# Altium schematic symbol library SCH - MCU - NUVOTON - NUVOTON NUC123LC2AN1.SchLib: 1 symbol
Pins are listed as number, name and electrical type; pins without a type are passive.

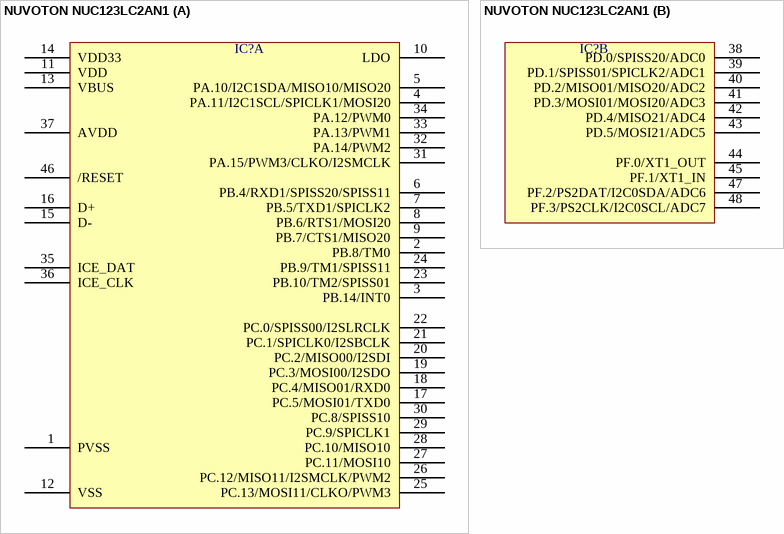
[diagram p0: symbol NUVOTON NUC123LC2AN1]

## NUVOTON NUC123LC2AN1
designator IC?  (value not drawn)
part A pins: 1 PVSS, 2 PB.8/TM0, 3 PB.14/INT0, 4 PA.11/I2C1SCL/SPICLK1/MOSI20, 5 PA.10/I2C1SDA/MISO10/MISO20, 6 PB.4/RXD1/SPISS20/SPISS11, 7 PB.5/TXD1/SPICLK2, 8 PB.6/RTS1/MOSI20, 9 PB.7/CTS1/MISO20, 10 LDO, 11 VDD, 12 VSS, 13 VBUS, 14 VDD33, 15 D-, 16 D+, 17 PC.5/MOSI01/TXD0, 18 PC.4/MISO01/RXD0, 19 PC.3/MOSI00/I2SDO, 20 PC.2/MISO00/I2SDI, 21 PC.1/SPICLK0/I2SBCLK, 22 PC.0/SPISS00/I2SLRCLK, 23 PB.10/TM2/SPISS01, 24 PB.9/TM1/SPISS11, 25 PC.13/MOSI11/CLKO/PWM3, 26 PC.12/MISO11/I2SMCLK/PWM2, 27 PC.11/MOSI10, 28 PC.10/MISO10, 29 PC.9/SPICLK1, 30 PC.8/SPISS10, 31 PA.15/PWM3/CLKO/I2SMCLK, 32 PA.14/PWM2, 33 PA.13/PWM1, 34 PA.12/PWM0, 35 ICE_DAT, 36 ICE_CLK, 37 AVDD, 46 /RESET
part B pins: 38 PD.0/SPISS20/ADC0, 39 PD.1/SPISS01/SPICLK2/ADC1, 40 PD.2/MISO01/MISO20/ADC2, 41 PD.3/MOSI01/MOSI20/ADC3, 42 PD.4/MISO21/ADC4, 43 PD.5/MOSI21/ADC5, 44 PF.0/XT1_OUT, 45 PF.1/XT1_IN, 47 PF.2/PS2DAT/I2C0SDA/ADC6, 48 PF.3/PS2CLK/I2C0SCL/ADC7